# EAGLE library part USB_5PIN (library PP_Connectors)
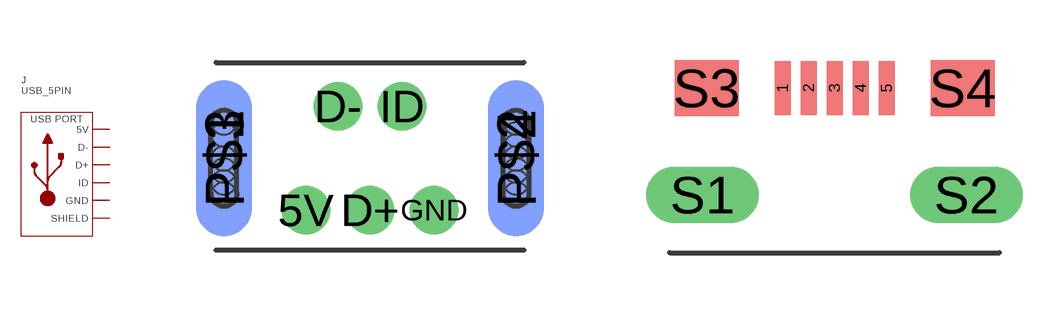
[diagram p4: symbol with the pads of 500075-1517; footprints 500075-1517, 10118193-0001LF]

Designator prefix J

## USB_5PIN_500075-1517 (POPULATE: 1)  [500075-1517]
5V  5V
D+  D+
D-  D-
GND  GND
ID  ID
P$1  SLD  pwr
P$2  SLD  pwr
P$3  SLD  pwr
P$4  SLD  pwr

## USB_5PIN_10118193-0001LF (POPULATE: 1)  [10118193-0001LF]
1  5V
2  D-
3  D+
4  ID
5  GND
S1  SLD  pwr
S2  SLD  pwr
S3  SLD  pwr
S4  SLD  pwr

## USB_5PIN_MC32599 (POPULATE: 1)  [MC32599]
D+  D+
D-  D-
GND  GND
N/C  ID
SH_0  SLD  pwr
SH_1  SLD  pwr
SH_2  SLD  pwr
SH_3  SLD  pwr
V_BUS  5V

## Footprint 500075-1517 (pad centres in mm)
drill 0.7: 5V -1.6,-1.3; D+ 0,-1.3; D- -0.8,1.3; GND 1.6,-1.3; ID 0.8,1.3
smd 1.4 x 3.9: P$1 -3.65,0; P$2 3.65,0
smd 1.4 x 3.9 bottom: P$3 -3.65,0; P$4 3.65,0
hole 0.6 at -3.65,0
hole 0.6 at -3.65,0
hole 0.6 at 3.65,0
hole 0.6 at 3.65,0.3
hole 0.6 at 3.65,0.6
hole 0.6 at 3.65,0.9
hole 0.6 at 3.65,-0.3
hole 0.6 at 3.65,-0.6
hole 0.6 at 3.65,-0.9
hole 0.6 at -3.65,0.6
hole 0.6 at -3.65,0.9
hole 0.6 at -3.65,-0.3
hole 0.6 at -3.65,-0.6
hole 0.6 at -3.65,-0.9

## Footprint 10118193-0001LF (pad centres in mm)
smd 0.4 x 1.35: 1 -1.3,2.54; 2 -0.65,2.54; 3 0,2.54; 4 0.65,2.54; 5 1.3,2.54
drill 0.9 long: S1 -3.3,-0.135; S2 3.3,-0.135
smd 1.6 x 1.4: S3 -3.2,2.54; S4 3.2,2.54

## Footprint MC32599 (pad centres in mm)
drill 0.7 pad 1.016 offset: D+ 0,0; D- 0.8,1.2; GND -1.6,0; N/C -0.8,1.2; V_BUS 1.6,0
drill 1.6: SH_0 -3.65,5.55; SH_1 3.65,5.55; SH_2 -3.65,0.9; SH_3 3.65,0.9